# EAGLE library part PAN1026 (library asl_bluetooth_module)
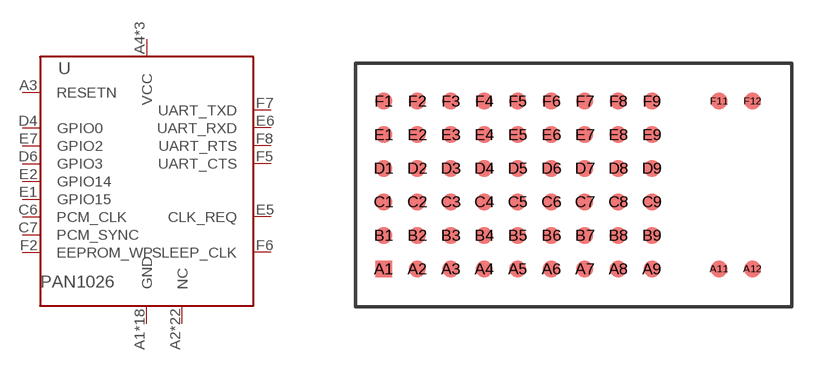
[diagram p1: symbol with the pads of PAN1026; footprint PAN1026]

Designator prefix -

## PAN1026  [PAN1026]
A1  GND
A2  NC
A3  RESETN
A4  VCC
A5  VCC
A6  VCC
A7  GND
A8  NC
A9  GND
A11  GND
A12  GND
B1  NC
B2  NC
B3  NC
B4  NC
B5  NC
B6  NC
B7  NC
B8  NC
B9  NC
C1  NC
C2  NC
C3  NC
C4  NC
C5  NC
C6  PCM_CLK
C7  PCM_SYNC
C8  GND
C9  GND
D1  NC
D2  NC
D3  NC
D4  GPIO0
D5  NC
D6  GPIO3
D7  GND
D8  GND
D9  NC
E1  GPIO15
E2  GPIO14
E3  GND
E4  NC
E5  CLK_REQ  pas
E6  UART_RXD
E7  GPIO2  pas
E8  GND
E9  GND
F1  GND
F2  EEPROM_WP
F3  GND
F4  GND
F5  UART_CTS
F6  SLEEP_CLK
F7  UART_TXD
F8  UART_RTS
F9  GND
F11  GND
F12  GND

## Footprint PAN1026 (pad centres in mm)
smd 0.6 x 0.6: A1 -6.8,-3; A2 -5.6,-3; A3 -4.4,-3; A4 -3.2,-3; A5 -2,-3; A6 -0.8,-3; A7 0.4,-3; A8 1.6,-3; A9 2.8,-3; A11 5.2,-3; A12 6.4,-3; B1 -6.8,-1.8; B2 -5.6,-1.8; B3 -4.4,-1.8; B4 -3.2,-1.8; B5 -2,-1.8; B6 -0.8,-1.8; B7 0.4,-1.8; B8 1.6,-1.8; B9 2.8,-1.8; C1 -6.8,-0.6; C2 -5.6,-0.6; C3 -4.4,-0.6; C4 -3.2,-0.6; C5 -2,-0.6; C6 -0.8,-0.6; C7 0.4,-0.6; C8 1.6,-0.6; C9 2.8,-0.6; D1 -6.8,0.6; D2 -5.6,0.6; D3 -4.4,0.6; D4 -3.2,0.6; D5 -2,0.6; D6 -0.8,0.6; D7 0.4,0.6; D8 1.6,0.6; D9 2.8,0.6; E1 -6.8,1.8; E2 -5.6,1.8; E3 -4.4,1.8; E4 -3.2,1.8; E5 -2,1.8; E6 -0.8,1.8; E7 0.4,1.8; E8 1.6,1.8; E9 2.8,1.8; F1 -6.8,3; F2 -5.6,3; F3 -4.4,3; F4 -3.2,3; F5 -2,3; F6 -0.8,3; F7 0.4,3; F8 1.6,3; F9 2.8,3; F11 5.2,3; F12 6.4,3